# Altium integrated library Light-emitting diode.IntLib: 5 symbols
Pins are listed as number, name and electrical type; pins without a type are passive.

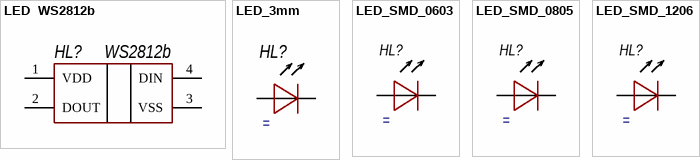
[diagram p0: symbols LED  WS2812b to LED_SMD_1206]

## LED  WS2812b
designator HL?, comment WS2812b
Model: *; Manufcacture: *; HelpURL: *; Value: *; Case: *
footprint WS2812b
pins: 1 VDD, 2 DOUT, 3 VSS, 4 DIN

## LED_3mm
designator HL?
footprint LED_3mm_Green
footprint LED_3mm_RED
pins: 1, 2
1 alternate drawing of the same symbol

## LED_SMD_0603
designator HL?
footprint LED_0603_R
footprint LED_0603_G
footprint LED_0603_Y
footprint LED_0603_WS
footprint LED_0603_B
pins: 1, 2
5 alternate drawings of the same symbol

## LED_SMD_0805
designator HL?
footprint LED_0805(Blue)
footprint LED_0805(Red)
footprint LED_0805(Green)
footprint LED_0805(Yellow)
pins: 1, 2
1 alternate drawing of the same symbol

## LED_SMD_1206
designator HL?
footprint LED_1206(Green)
footprint LED_1206(Red)
footprint LED_1206(Yellow)
pins: 1, 2
1 alternate drawing of the same symbol